# EAGLE library part MINIMOTOR (library con-special_purpose)
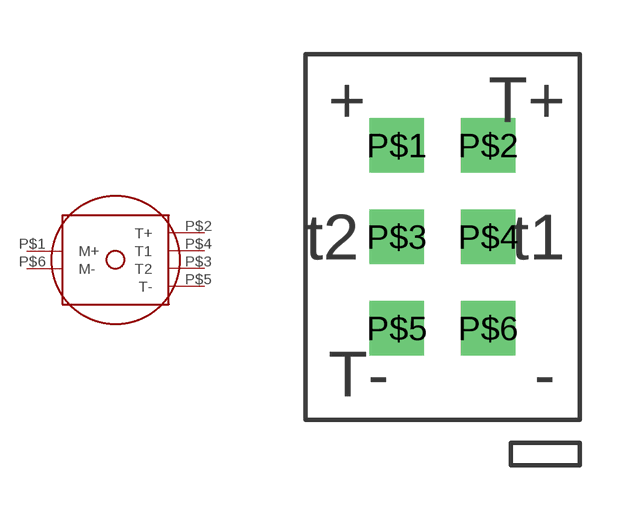
[diagram p4: symbol with the pads of MOTOR-HEADER; footprint MOTOR-HEADER]

Designator prefix -

## MINIMOTOR (PLACE_PART: YES)  [MOTOR-HEADER]
P$1  M+
P$2  T+
P$3  T2
P$4  T1
P$5  T-
P$6  M-

## Footprint MOTOR-HEADER (pad centres in mm)
drill 1 square: P$1 -2.54,5.08; P$2 0,5.08; P$3 -2.54,2.54; P$4 0,2.54; P$5 -2.54,0; P$6 0,0